# EAGLE library part GE12RP (library EW_Resistors)
SIL RESISTOR
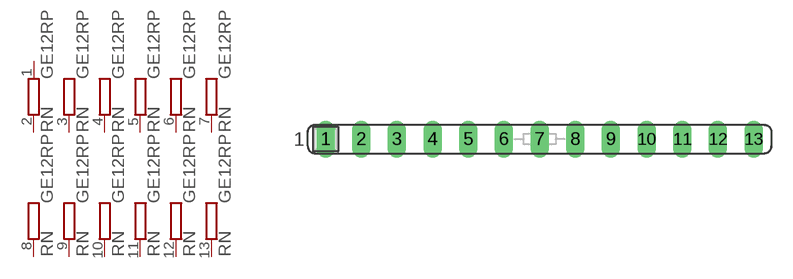
[diagram p59: symbol with the pads of SIL13; footprint SIL13]

Designator prefix RN; gates A=R-PV-8 B=R-PV1-8 C=R-PV1-8 D=R-PV1-8 E=R-PV1-8 F=R-PV1-8 G=R-PV1-8 H=R-PV1-8 I=R-PV1-8 J=R-PV1-8 K=R-PV1-8 L=R-PV1-8

## GE12RP (OC_FARNELL: unknown; OC_NEWARK: unknown)  [SIL13]
1  A:1  pas
2  A:2  pas
3  B:2  pas
4  C:2  pas
5  D:2  pas
6  E:2  pas
7  F:2  pas
8  G:2  pas
9  H:2  pas
10  I:2  pas
11  J:2  pas
12  K:2  pas
13  L:2  pas

## Footprint SIL13 (pad centres in mm)
Single In Line
drill 0.813 long: 1 -15.24,0; 2 -12.7,0; 3 -10.16,0; 4 -7.62,0; 5 -5.08,0; 6 -2.54,0; 7 0,0; 8 2.54,0; 9 5.08,0; 10 7.62,0; 11 10.16,0; 12 12.7,0; 13 15.24,0